# Altium schematic symbol library MI_Personal.SchLib: 995 symbols (part 8 of 12)
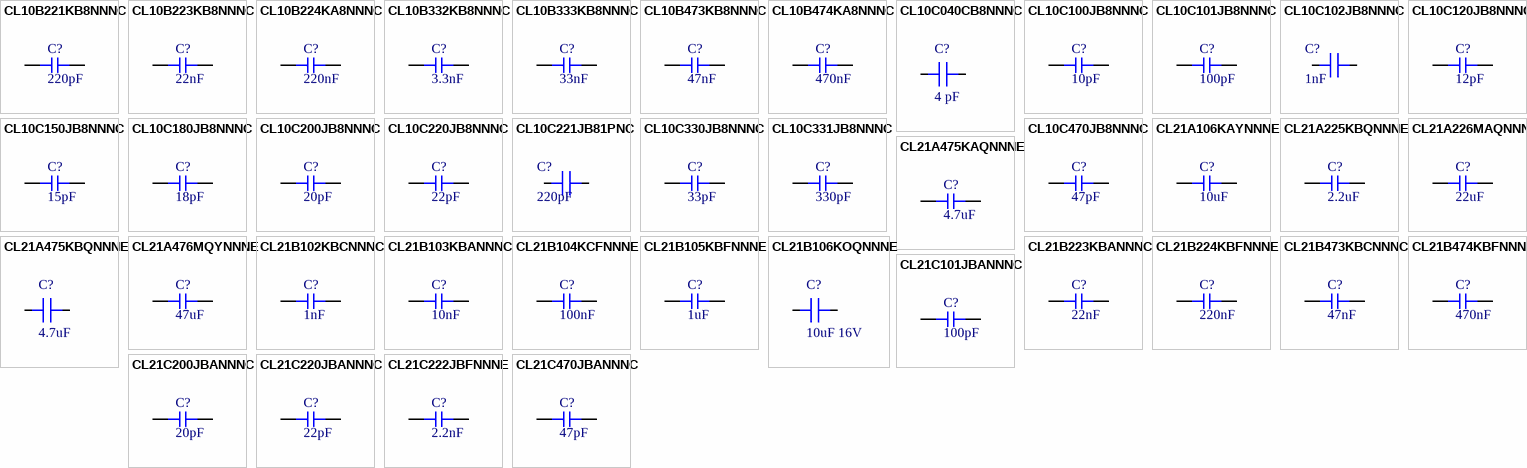
[diagram p34: symbols CL10B221KB8NNNC to CL21C470JBANNNC]

## CL21B105KBFNNNE
designator C?  Capacitance: 1uF  (hidden comment: *)
Capacitor, Ceramic (MLCC), 1uF, ±10%, 50V, X7R, ±10%, SMD 0805; Manufacturer: Samsung Electro-Mechanics; Manufacturer Part Number: CL21B105KBFNNNE; Temperature Rating: -55°C ~ 125°C; Capacitance @ 1V DC Bias: 1.022uF; Capacitance @ 1.2V DC Bias: 1.023uF; Capacitance @ 2.5V DC Bias: 1.020uF; Capacitance @ 3.3V DC Bias: 1.012uF; Capacitance @ 3.7V DC Bias: 1.007uF; Capacitance @ 4.2V DC Bias: 1.001uF; Capacitance @ 5V DC Bias: 0.989uF; Capacitance @ 9V DC Bias: 0.922uF; Capacitance @ 12V DC Bias: 0.865uF; Capacitance @ 15V DC Bias: 0.808uF; Capacitance @ 24V DC Bias: 0.633uF; Capacitance @ 36V DC Bias: 0.438uF; Capacitance @ 48V DC Bias: 0.303uF; Impedance (0V Bias) @ 100Hz: 1.59E+03Ω; Impedance (0V Bias) @ 500Hz: 322Ω; Impedance (0V Bias) @ 1kHz: 162Ω; Impedance (0V Bias) @ 5kHz: 32.7Ω; Impedance (0V Bias) @ 10kHz: 16.4Ω; Impedance (0V Bias) @ 50kHz: 3.32Ω; Impedance (0V Bias) @ 100kHz: 1.67Ω; Impedance (0V Bias) @ 500kHz: 0.337Ω; Impedance (0V Bias) @ 1MHz: 0.167Ω; Impedance (0V Bias) @ 5MHz: 0.0173Ω; Impedance (0V Bias) @ 10MHz: 0.0272Ω; Impedance (0V Bias) @ 50MHz: 0.083Ω; Impedance (0V Bias) @ 100MHz: 0.15Ω; Impedance (0V Bias) @ 500MHz: 0.646Ω; Impedance (0V Bias) @ 1GHz: 1.23Ω; Impedance (0V Bias) @ 2GHz: 3.21Ω; Impedance (0V Bias) @ 5GHz: 4.31Ω; Package Size: 0805; JLCPCB Basic Part: Yes; JLCPCB Part Number: C28323; Supplier 1: LCSC; Category: Capacitors - MLCC; Supplier Part Number 1: C28323; Tolerance: ±10%; Voltage Rating: 50V; Temperature Coefficient: X7R; RoHS: Yes; ComponentLink1Description: Datasheet; ComponentLink1URL: https://wmsc.lcsc.com/wmsc/upload/file/pdf/v2/lcsc/2304140030_Samsung-Electro-Mechanics-CL21B105KBFNNNE_C28323.pdf; ComponentLink2Description: JLCPCB Part URL; ComponentLink2URL: https://jlcpcb.com/partdetail/C28323; ComponentLink3Description: LCSC Part URL; ComponentLink3URL: https://lcsc.com/product-detail/Multilayer-Ceramic-Capacitors-MLCC---SMD-SMT_Samsung-Electro-Mechanics-Samsung-Electro-Mechanics-CL21B105KBFNNNE_C28323.html; ComponentLink4Description: Samsung Component Library; ComponentLink4URL: https://weblib.samsungsem.com/mlcc/mlcc-ec.do?partNumber=CL21B105KBFNNN; Capacitance @ 1.35V DC Bias: 1.023uF; Capacitance @ 1.5V DC Bias: 1.023uF; Capacitance @ 1.8V DC Bias: 1.023uF
footprint CAP-0805 (0805 (2012M) Capacitor)
pins: 1, 2

## CL21B106KOQNNNE
designator C?, comment 10uF 16V
CAP CER 10 UF 16V  X7R 0805; Supplier 1: DigiKey; Supplier Part Number 1: 1276-2872-1-ND; Supplier 2: LCSC; Supplier Part Number 2: C95841
footprint CAP 0805_2012 (Chip Capacitor, 2-Leads, Body 2.00x1.20mm, IPC Medium Density)
pins: 1, 2

## CL21B223KBANNNC
designator C?  Capacitance: 22nF  (hidden comment: *)
Capacitor, Ceramic (MLCC), 22nF, ±10%, 50V, X7R, ±10%, SMD 0805; Manufacturer: Samsung Electro-Mechanics; Manufacturer Part Number: CL21B223KBANNNC; Temperature Rating: -55°C ~ 125°C; Capacitance @ 1V DC Bias: 23.215nF; Capacitance @ 1.2V DC Bias: 23.284nF; Capacitance @ 1.35V DC Bias: 23.335nF; Capacitance @ 1.5V DC Bias: 23.383nF; Capacitance @ 1.8V DC Bias: 23.468nF; Capacitance @ 2.5V DC Bias: 23.573nF; Capacitance @ 3.3V DC Bias: 23.621nF; Capacitance @ 3.7V DC Bias: 23.639nF; Capacitance @ 4.2V DC Bias: 23.665nF; Capacitance @ 5V DC Bias: 23.709nF; Capacitance @ 9V DC Bias: 23.673nF; Capacitance @ 12V DC Bias: 23.509nF; Capacitance @ 15V DC Bias: 23.295nF; Capacitance @ 24V DC Bias: 22.251nF; Capacitance @ 36V DC Bias: 20.428nF; Capacitance @ 48V DC Bias: 18.116nF; Impedance (0V Bias) @ 100Hz: 7.26E+04Ω; Impedance (0V Bias) @ 500Hz: 1.48E+04Ω; Impedance (0V Bias) @ 1kHz: 7.42E+03Ω; Impedance (0V Bias) @ 5kHz: 1.51E+03Ω; Impedance (0V Bias) @ 10kHz: 759Ω; Impedance (0V Bias) @ 50kHz: 154Ω; Impedance (0V Bias) @ 100kHz: 77.4Ω; Impedance (0V Bias) @ 500kHz: 15.7Ω; Impedance (0V Bias) @ 1MHz: 7.89Ω; Impedance (0V Bias) @ 5MHz: 1.6Ω; Impedance (0V Bias) @ 10MHz: 0.791Ω; Impedance (0V Bias) @ 50MHz: 0.0677Ω; Impedance (0V Bias) @ 100MHz: 0.173Ω; Impedance (0V Bias) @ 500MHz: 1Ω; Impedance (0V Bias) @ 1GHz: 1.85Ω; Impedance (0V Bias) @ 2GHz: 4.69Ω; Impedance (0V Bias) @ 5GHz: 7.59Ω; Package Size: 0805; JLCPCB Basic Part: Yes; JLCPCB Part Number: C1729; Supplier 1: LCSC; Category: Capacitors - MLCC; Supplier Part Number 1: C1729; Tolerance: ±10%; Voltage Rating: 50V; Temperature Coefficient: X7R; RoHS: Yes; ComponentLink1Description: Datasheet; ComponentLink1URL: https://wmsc.lcsc.com/wmsc/upload/file/pdf/v2/lcsc/2304140030_Samsung-Electro-Mechanics-CL21B223KBANNNC_C1729.pdf; ComponentLink2Description: JLCPCB Part URL; ComponentLink2URL: https://jlcpcb.com/partdetail/C1729; ComponentLink3Description: LCSC Part URL; ComponentLink3URL: https://lcsc.com/product-detail/Multilayer-Ceramic-Capacitors-MLCC---SMD-SMT_Samsung-Electro-Mechanics-Samsung-Electro-Mechanics-CL21B223KBANNNC_C1729.html; ComponentLink4Description: Samsung Component Library; ComponentLink4URL: https://weblib.samsungsem.com/mlcc/mlcc-ec.do?partNumber=CL21B223KBANNN
footprint CAP-0805 (0805 (2012M) Capacitor)
pins: 1, 2

## CL21B224KBFNNNE
designator C?  Capacitance: 220nF  (hidden comment: *)
Capacitor, Ceramic (MLCC), 220nF, ±10%, 50V, X7R, ±10%, SMD 0805; Manufacturer: Samsung Electro-Mechanics; Manufacturer Part Number: CL21B224KBFNNNE; Temperature Rating: -55°C ~ 125°C; Capacitance @ 1V DC Bias: 225.693nF; Capacitance @ 1.2V DC Bias: 226.196nF; Capacitance @ 1.35V DC Bias: 226.716nF; Capacitance @ 1.5V DC Bias: 227.283nF; Capacitance @ 1.8V DC Bias: 228.348nF; Capacitance @ 2.5V DC Bias: 229.076nF; Capacitance @ 3.3V DC Bias: 228.527nF; Capacitance @ 3.7V DC Bias: 228.002nF; Capacitance @ 4.2V DC Bias: 227.332nF; Capacitance @ 5V DC Bias: 226.161nF; Capacitance @ 9V DC Bias: 215.876nF; Capacitance @ 12V DC Bias: 204.525nF; Capacitance @ 15V DC Bias: 192.396nF; Capacitance @ 24V DC Bias: 153.699nF; Capacitance @ 36V DC Bias: 110.941nF; Capacitance @ 48V DC Bias: 81.108nF; Impedance (0V Bias) @ 100Hz: 7.22E+03Ω; Impedance (0V Bias) @ 500Hz: 1.47E+03Ω; Impedance (0V Bias) @ 1kHz: 738Ω; Impedance (0V Bias) @ 5kHz: 150Ω; Impedance (0V Bias) @ 10kHz: 75.3Ω; Impedance (0V Bias) @ 50kHz: 15.2Ω; Impedance (0V Bias) @ 100kHz: 7.66Ω; Impedance (0V Bias) @ 500kHz: 1.55Ω; Impedance (0V Bias) @ 1MHz: 0.776Ω; Impedance (0V Bias) @ 5MHz: 0.141Ω; Impedance (0V Bias) @ 10MHz: 0.0469Ω; Impedance (0V Bias) @ 50MHz: 0.125Ω; Impedance (0V Bias) @ 100MHz: 0.226Ω; Impedance (0V Bias) @ 500MHz: 1.03Ω; Impedance (0V Bias) @ 1GHz: 2.08Ω; Impedance (0V Bias) @ 2GHz: 5.76Ω; Impedance (0V Bias) @ 5GHz: 8.59Ω; Package Size: 0805; JLCPCB Basic Part: Yes; JLCPCB Part Number: C5378; Supplier 1: LCSC; Category: Capacitors - MLCC; Supplier Part Number 1: C5378; Tolerance: ±10%; Voltage Rating: 50V; Temperature Coefficient: X7R; RoHS: Yes; ComponentLink1Description: Datasheet; ComponentLink1URL: https://wmsc.lcsc.com/wmsc/upload/file/pdf/v2/lcsc/2304140030_Samsung-Electro-Mechanics-CL21B224KBFNNNE_C5378.pdf; ComponentLink2Description: JLCPCB Part URL; ComponentLink2URL: https://jlcpcb.com/partdetail/C5378; ComponentLink3Description: LCSC Part URL; ComponentLink3URL: https://lcsc.com/product-detail/Multilayer-Ceramic-Capacitors-MLCC---SMD-SMT_Samsung-Electro-Mechanics-Samsung-Electro-Mechanics-CL21B224KBFNNNE_C5378.html; ComponentLink4Description: Samsung Component Library; ComponentLink4URL: https://weblib.samsungsem.com/mlcc/mlcc-ec.do?partNumber=CL21B224KBFNNN
footprint CAP-0805 (0805 (2012M) Capacitor)
pins: 1, 2

## CL21B473KBCNNNC
designator C?  Capacitance: 47nF  (hidden comment: *)
Capacitor, Ceramic (MLCC), 47nF, ±10%, 50V, X7R, ±10%, SMD 0805; Manufacturer: Samsung Electro-Mechanics; Manufacturer Part Number: CL21B473KBCNNNC; Temperature Rating: -55°C ~ 125°C; Capacitance @ 1V DC Bias: 47.743nF; Capacitance @ 1.2V DC Bias: 47.804nF; Capacitance @ 1.35V DC Bias: 47.849nF; Capacitance @ 1.5V DC Bias: 47.892nF; Capacitance @ 1.8V DC Bias: 47.964nF; Capacitance @ 2.5V DC Bias: 47.989nF; Capacitance @ 3.3V DC Bias: 48.073nF; Capacitance @ 3.7V DC Bias: 48.228nF; Capacitance @ 4.2V DC Bias: 48.310nF; Capacitance @ 5V DC Bias: 48.211nF; Capacitance @ 9V DC Bias: 47.580nF; Capacitance @ 12V DC Bias: 46.673nF; Capacitance @ 15V DC Bias: 45.635nF; Capacitance @ 24V DC Bias: 41.687nF; Capacitance @ 36V DC Bias: 34.181nF; Capacitance @ 48V DC Bias: 25.313nF; Impedance (0V Bias) @ 100Hz: 3.56E+04Ω; Impedance (0V Bias) @ 500Hz: 7.22E+03Ω; Impedance (0V Bias) @ 1kHz: 3.63E+03Ω; Impedance (0V Bias) @ 5kHz: 736Ω; Impedance (0V Bias) @ 10kHz: 370Ω; Impedance (0V Bias) @ 50kHz: 75.1Ω; Impedance (0V Bias) @ 100kHz: 37.7Ω; Impedance (0V Bias) @ 500kHz: 7.64Ω; Impedance (0V Bias) @ 1MHz: 3.84Ω; Impedance (0V Bias) @ 5MHz: 0.766Ω; Impedance (0V Bias) @ 10MHz: 0.363Ω; Impedance (0V Bias) @ 50MHz: 0.0744Ω; Impedance (0V Bias) @ 100MHz: 0.241Ω; Impedance (0V Bias) @ 500MHz: 1.14Ω; Impedance (0V Bias) @ 1GHz: 2.29Ω; Impedance (0V Bias) @ 2GHz: 6.81Ω; Impedance (0V Bias) @ 5GHz: 8.83Ω; Package Size: 0805; JLCPCB Basic Part: Yes; JLCPCB Part Number: C53134; Supplier 1: LCSC; Category: Capacitors - MLCC; Supplier Part Number 1: C53134; Tolerance: ±10%; Voltage Rating: 50V; Temperature Coefficient: X7R; RoHS: Yes; ComponentLink1Description: Datasheet; ComponentLink1URL: https://wmsc.lcsc.com/wmsc/upload/file/pdf/v2/lcsc/2304140030_Samsung-Electro-Mechanics-CL21B473KBCNNNC_C53134.pdf; ComponentLink2Description: JLCPCB Part URL; ComponentLink2URL: https://jlcpcb.com/partdetail/C53134; ComponentLink3Description: LCSC Part URL; ComponentLink3URL: https://lcsc.com/product-detail/Multilayer-Ceramic-Capacitors-MLCC---SMD-SMT_Samsung-Electro-Mechanics-Samsung-Electro-Mechanics-CL21B473KBCNNNC_C53134.html; ComponentLink4Description: Samsung Component Library; ComponentLink4URL: https://weblib.samsungsem.com/mlcc/mlcc-ec.do?partNumber=CL21B473KBCNNN
footprint CAP-0805 (0805 (2012M) Capacitor)
pins: 1, 2

## CL21B474KBFNNNE
designator C?  Capacitance: 470nF  (hidden comment: *)
Capacitor, Ceramic (MLCC), 470nF, ±10%, 50V, X7R, ±10%, SMD 0805; Manufacturer: Samsung Electro-Mechanics; Manufacturer Part Number: CL21B474KBFNNNE; Temperature Rating: -55°C ~ 125°C; Capacitance @ 1V DC Bias: 484.366nF; Capacitance @ 1.2V DC Bias: 485.709nF; Capacitance @ 1.35V DC Bias: 486.733nF; Capacitance @ 1.5V DC Bias: 487.728nF; Capacitance @ 1.8V DC Bias: 489.453nF; Capacitance @ 2.5V DC Bias: 491.116nF; Capacitance @ 3.3V DC Bias: 490.196nF; Capacitance @ 3.7V DC Bias: 488.843nF; Capacitance @ 4.2V DC Bias: 486.322nF; Capacitance @ 5V DC Bias: 480.667nF; Capacitance @ 9V DC Bias: 444.308nF; Capacitance @ 12V DC Bias: 402.629nF; Capacitance @ 15V DC Bias: 360.468nF; Capacitance @ 24V DC Bias: 251.778nF; Capacitance @ 36V DC Bias: 161.853nF; Capacitance @ 48V DC Bias: 116.152nF; Impedance (0V Bias) @ 100Hz: 3.21E+03Ω; Impedance (0V Bias) @ 500Hz: 654Ω; Impedance (0V Bias) @ 1kHz: 329Ω; Impedance (0V Bias) @ 5kHz: 67Ω; Impedance (0V Bias) @ 10kHz: 33.7Ω; Impedance (0V Bias) @ 50kHz: 6.83Ω; Impedance (0V Bias) @ 100kHz: 3.44Ω; Impedance (0V Bias) @ 500kHz: 0.697Ω; Impedance (0V Bias) @ 1MHz: 0.348Ω; Impedance (0V Bias) @ 5MHz: 0.0566Ω; Impedance (0V Bias) @ 10MHz: 0.0125Ω; Impedance (0V Bias) @ 50MHz: 0.0936Ω; Impedance (0V Bias) @ 100MHz: 0.169Ω; Impedance (0V Bias) @ 500MHz: 0.737Ω; Impedance (0V Bias) @ 1GHz: 1.43Ω; Impedance (0V Bias) @ 2GHz: 3.83Ω; Impedance (0V Bias) @ 5GHz: 4.98Ω; Package Size: 0805; JLCPCB Basic Part: Yes; JLCPCB Part Number: C13967; Supplier 1: LCSC; Category: Capacitors - MLCC; Supplier Part Number 1: C13967; Tolerance: ±10%; Voltage Rating: 50V; Temperature Coefficient: X7R; RoHS: Yes; ComponentLink1Description: Datasheet; ComponentLink1URL: https://wmsc.lcsc.com/wmsc/upload/file/pdf/v2/lcsc/2304140030_Samsung-Electro-Mechanics-CL21B474KBFNNNE_C13967.pdf; ComponentLink2Description: JLCPCB Part URL; ComponentLink2URL: https://jlcpcb.com/partdetail/C13967; ComponentLink3Description: LCSC Part URL; ComponentLink3URL: https://lcsc.com/product-detail/Multilayer-Ceramic-Capacitors-MLCC---SMD-SMT_Samsung-Electro-Mechanics-Samsung-Electro-Mechanics-CL21B474KBFNNNE_C13967.html; ComponentLink4Description: Samsung Component Library; ComponentLink4URL: https://weblib.samsungsem.com/mlcc/mlcc-ec.do?partNumber=CL21B474KBFNNN
footprint CAP-0805 (0805 (2012M) Capacitor)
pins: 1, 2

## CL21C101JBANNNC
designator C?  Capacitance: 100pF  (hidden comment: *)
Capacitor, Ceramic (MLCC), 100pF, ±5%, 50V, C0G, ±5%, SMD 0805; Manufacturer: Samsung Electro-Mechanics; Manufacturer Part Number: CL21C101JBANNNC; Temperature Rating: -55°C ~ 125°C; Impedance (0V Bias) @ 100MHz: 15.6Ω; Impedance (0V Bias) @ 500MHz: 1.81Ω; Impedance (0V Bias) @ 1GHz: 1.14Ω; Impedance (0V Bias) @ 2GHz: 6.04Ω; Impedance (0V Bias) @ 5GHz: 11.1Ω; Package Size: 0805; JLCPCB Basic Part: Yes; JLCPCB Part Number: C1790; Supplier 1: LCSC; Category: Capacitors - MLCC; Supplier Part Number 1: C1790; Tolerance: ±5%; Voltage Rating: 50V; Temperature Coefficient: C0G; RoHS: Yes; ComponentLink1Description: Datasheet; ComponentLink1URL: https://wmsc.lcsc.com/wmsc/upload/file/pdf/v2/lcsc/2304140030_Samsung-Electro-Mechanics-CL21C101JBANNNC_C1790.pdf; ComponentLink2Description: JLCPCB Part URL; ComponentLink2URL: https://jlcpcb.com/partdetail/C1790; ComponentLink3Description: LCSC Part URL; ComponentLink3URL: https://lcsc.com/product-detail/Multilayer-Ceramic-Capacitors-MLCC---SMD-SMT_Samsung-Electro-Mechanics-Samsung-Electro-Mechanics-CL21C101JBANNNC_C1790.html; ComponentLink4Description: Samsung Component Library; ComponentLink4URL: https://weblib.samsungsem.com/mlcc/mlcc-ec.do?partNumber=CL21C101JBANNN
footprint CAP-0805 (0805 (2012M) Capacitor)
pins: 1, 2

## CL21C200JBANNNC
designator C?  Capacitance: 20pF  (hidden comment: *)
Capacitor, Ceramic (MLCC), 20pF, ±5%, 50V, C0G, ±5%, SMD 0805; Manufacturer: Samsung Electro-Mechanics; Manufacturer Part Number: CL21C200JBANNNC; Temperature Rating: -55°C ~ 125°C; Impedance (0V Bias) @ 100MHz: 79.3Ω; Impedance (0V Bias) @ 500MHz: 14.7Ω; Impedance (0V Bias) @ 1GHz: 5.55Ω; Impedance (0V Bias) @ 2GHz: 2.72Ω; Impedance (0V Bias) @ 5GHz: 10.1Ω; Package Size: 0805; JLCPCB Basic Part: Yes; JLCPCB Part Number: C1798; Supplier 1: LCSC; Category: Capacitors - MLCC; Supplier Part Number 1: C1798; Tolerance: ±5%; Voltage Rating: 50V; Temperature Coefficient: C0G; RoHS: Yes; ComponentLink1Description: Datasheet; ComponentLink1URL: https://wmsc.lcsc.com/wmsc/upload/file/pdf/v2/lcsc/2304140030_Samsung-Electro-Mechanics-CL21C200JBANNNC_C1798.pdf; ComponentLink2Description: JLCPCB Part URL; ComponentLink2URL: https://jlcpcb.com/partdetail/C1798; ComponentLink3Description: LCSC Part URL; ComponentLink3URL: https://lcsc.com/product-detail/Multilayer-Ceramic-Capacitors-MLCC---SMD-SMT_Samsung-Electro-Mechanics-Samsung-Electro-Mechanics-CL21C200JBANNNC_C1798.html; ComponentLink4Description: Samsung Component Library; ComponentLink4URL: https://weblib.samsungsem.com/mlcc/mlcc-ec.do?partNumber=CL21C200JBANNN
footprint CAP-0805 (0805 (2012M) Capacitor)
pins: 1, 2

## CL21C220JBANNNC
designator C?  Capacitance: 22pF  (hidden comment: *)
Capacitor, Ceramic (MLCC), 22pF, ±5%, 50V, C0G, ±5%, SMD 0805; Manufacturer: Samsung Electro-Mechanics; Manufacturer Part Number: CL21C220JBANNNC; Temperature Rating: -55°C ~ 125°C; Impedance (0V Bias) @ 100MHz: 72.1Ω; Impedance (0V Bias) @ 500MHz: 13.2Ω; Impedance (0V Bias) @ 1GHz: 4.73Ω; Impedance (0V Bias) @ 2GHz: 3.26Ω; Impedance (0V Bias) @ 5GHz: 11.2Ω; Package Size: 0805; JLCPCB Basic Part: Yes; JLCPCB Part Number: C1804; Supplier 1: LCSC; Category: Capacitors - MLCC; Supplier Part Number 1: C1804; Tolerance: ±5%; Voltage Rating: 50V; Temperature Coefficient: C0G; RoHS: Yes; ComponentLink1Description: Datasheet; ComponentLink1URL: https://wmsc.lcsc.com/wmsc/upload/file/pdf/v2/lcsc/2304140030_Samsung-Electro-Mechanics-CL21C220JBANNNC_C1804.pdf; ComponentLink2Description: JLCPCB Part URL; ComponentLink2URL: https://jlcpcb.com/partdetail/C1804; ComponentLink3Description: LCSC Part URL; ComponentLink3URL: https://lcsc.com/product-detail/Multilayer-Ceramic-Capacitors-MLCC---SMD-SMT_Samsung-Electro-Mechanics-Samsung-Electro-Mechanics-CL21C220JBANNNC_C1804.html; ComponentLink4Description: Samsung Component Library; ComponentLink4URL: https://weblib.samsungsem.com/mlcc/mlcc-ec.do?partNumber=CL21C220JBANNN
footprint CAP-0805 (0805 (2012M) Capacitor)
pins: 1, 2

## CL21C222JBFNNNE
designator C?  Capacitance: 2.2nF  (hidden comment: *)
Capacitor, Ceramic (MLCC), 2.2nF, ±5%, 50V, C0G, ±5%, SMD 0805; Manufacturer: Samsung Electro-Mechanics; Manufacturer Part Number: CL21C222JBFNNNE; Temperature Rating: -55°C ~ 125°C; Impedance (0V Bias) @ 1MHz: 72.3Ω; Impedance (0V Bias) @ 5MHz: 14.5Ω; Impedance (0V Bias) @ 10MHz: 7.2Ω; Impedance (0V Bias) @ 50MHz: 1.29Ω; Impedance (0V Bias) @ 100MHz: 0.415Ω; Impedance (0V Bias) @ 500MHz: 1.04Ω; Impedance (0V Bias) @ 1GHz: 1.98Ω; Impedance (0V Bias) @ 2GHz: 4.86Ω; Impedance (0V Bias) @ 5GHz: 9.61Ω; Package Size: 0805; JLCPCB Basic Part: Yes; JLCPCB Part Number: C28260; Supplier 1: LCSC; Category: Capacitors - MLCC; Supplier Part Number 1: C28260; Tolerance: ±5%; Voltage Rating: 50V; Temperature Coefficient: C0G; RoHS: Yes; ComponentLink1Description: Datasheet; ComponentLink1URL: https://wmsc.lcsc.com/wmsc/upload/file/pdf/v2/lcsc/2304140030_Samsung-Electro-Mechanics-CL21C222JBFNNNE_C28260.pdf; ComponentLink2Description: JLCPCB Part URL; ComponentLink2URL: https://jlcpcb.com/partdetail/C28260; ComponentLink3Description: LCSC Part URL; ComponentLink3URL: https://lcsc.com/product-detail/Multilayer-Ceramic-Capacitors-MLCC---SMD-SMT_Samsung-Electro-Mechanics-Samsung-Electro-Mechanics-CL21C222JBFNNNE_C28260.html; ComponentLink4Description: Samsung Component Library; ComponentLink4URL: https://weblib.samsungsem.com/mlcc/mlcc-ec.do?partNumber=CL21C222JBFNNN
footprint CAP-0805 (0805 (2012M) Capacitor)
pins: 1, 2

## CL21C470JBANNNC
designator C?  Capacitance: 47pF  (hidden comment: *)
Capacitor, Ceramic (MLCC), 47pF, ±5%, 50V, C0G, ±5%, SMD 0805; Manufacturer: Samsung Electro-Mechanics; Manufacturer Part Number: CL21C470JBANNNC; Temperature Rating: -55°C ~ 125°C; Impedance (0V Bias) @ 100MHz: 33.6Ω; Impedance (0V Bias) @ 500MHz: 5.4Ω; Impedance (0V Bias) @ 1GHz: 0.703Ω; Impedance (0V Bias) @ 2GHz: 5.25Ω; Impedance (0V Bias) @ 5GHz: 12.3Ω; Package Size: 0805; JLCPCB Basic Part: Yes; JLCPCB Part Number: C14857; Supplier 1: LCSC; Category: Capacitors - MLCC; Supplier Part Number 1: C14857; Tolerance: ±5%; Voltage Rating: 50V; Temperature Coefficient: C0G; RoHS: Yes; ComponentLink1Description: Datasheet; ComponentLink1URL: https://wmsc.lcsc.com/wmsc/upload/file/pdf/v2/lcsc/2304140030_Samsung-Electro-Mechanics-CL21C470JBANNNC_C14857.pdf; ComponentLink2Description: JLCPCB Part URL; ComponentLink2URL: https://jlcpcb.com/partdetail/C14857; ComponentLink3Description: LCSC Part URL; ComponentLink3URL: https://lcsc.com/product-detail/Multilayer-Ceramic-Capacitors-MLCC---SMD-SMT_Samsung-Electro-Mechanics-Samsung-Electro-Mechanics-CL21C470JBANNNC_C14857.html; ComponentLink4Description: Samsung Component Library; ComponentLink4URL: https://weblib.samsungsem.com/mlcc/mlcc-ec.do?partNumber=CL21C470JBANNN
footprint CAP-0805 (0805 (2012M) Capacitor)
pins: 1, 2

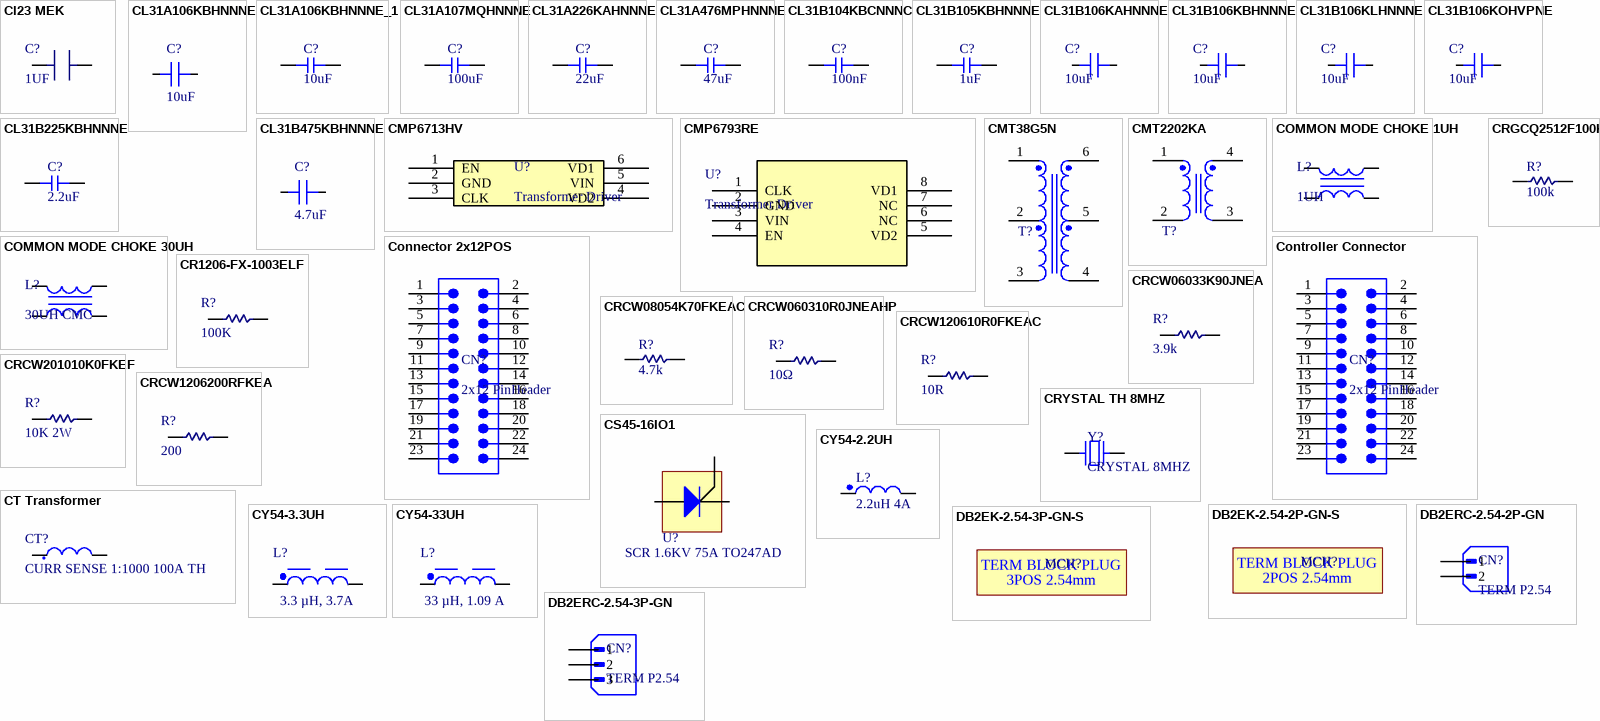
[diagram p11: symbols Cl23 MEK to DB2ERC-2.54-3P-GN]

## Cl23 MEK
designator C?, comment 1UF
CAP FILM 1UF 65VDC TH; ComponentLink1Description: MADE IN CHINA; ComponentLink1URL: https://hongfarad168.en.made-in-china.com/product/CsMQuEWDhJhe/China-Durable-Cl23-MEK-Minibox-Metallized-Polyester-Film-Capacitor-Box-type-.html?pv_id=1ig1leab5004&faw_id=1ig1lejmm149; Supplier 1: Made In China; Supplier Part Number 1: https://hongfarad168.en.made-in-china.com/product/CsMQuEWDhJhe/China-Durable-Cl23-MEK-Minibox-Metallized-Polyester-Film-Capacitor-Box-type-.html?pv_id=1ig1leab5004&faw_id=1ig1lejmm149
footprint Cl23 MEK
pins: 1 A, 2 B

## CL31A106KBHNNNE
designator C?, comment 10uF
CAP CER 10UF 50V X5R 1206; Supplier 1: Digikey; Supplier Part Number 1: 1276-2876-1-ND; Supplier 2: LCSC; Supplier Part Number 2: C13585; Supplier 3: Digikey; Supplier Part Number 3: 587-3248-1-ND; Supplier 4: LCSC; Supplier Part Number 4: C513774
footprint CAP 1206_3216 - 1.8MM (Chip Capacitor, 2-Leads, Body 3.25x1.60mm, IPC Medium Density)
pins: 1, 2

## CL31A106KBHNNNE_1
designator C?  Capacitance: 10uF  (hidden comment: *)
Capacitor, Ceramic (MLCC), 10uF, ±10%, 50V, X5R, ±10%, SMD 1206; Manufacturer: Samsung Electro-Mechanics; Manufacturer Part Number: CL31A106KBHNNNE; Temperature Rating: -55°C ~ 85°C; Capacitance @ 1V DC Bias: 10.893uF; Capacitance @ 1.2V DC Bias: 10.845uF; Capacitance @ 1.35V DC Bias: 10.805uF; Capacitance @ 1.5V DC Bias: 10.758uF; Capacitance @ 1.8V DC Bias: 10.643uF; Capacitance @ 2.5V DC Bias: 10.207uF; Capacitance @ 3.3V DC Bias: 9.569uF; Capacitance @ 3.7V DC Bias: 9.212uF; Capacitance @ 4.2V DC Bias: 8.754uF; Capacitance @ 5V DC Bias: 8.026uF; Capacitance @ 9V DC Bias: 5.016uF; Capacitance @ 12V DC Bias: 3.815uF; Capacitance @ 15V DC Bias: 2.884uF; Capacitance @ 24V DC Bias: 1.592uF; Capacitance @ 36V DC Bias: 0.865uF; Capacitance @ 48V DC Bias: 0.593uF; Impedance (0V Bias) @ 100Hz: 214Ω; Impedance (0V Bias) @ 500Hz: 43.9Ω; Impedance (0V Bias) @ 1kHz: 22.2Ω; Impedance (0V Bias) @ 5kHz: 4.53Ω; Impedance (0V Bias) @ 10kHz: 2.28Ω; Impedance (0V Bias) @ 50kHz: 0.466Ω; Impedance (0V Bias) @ 100kHz: 0.235Ω; Impedance (0V Bias) @ 500kHz: 0.0451Ω; Impedance (0V Bias) @ 1MHz: 0.0185Ω; Impedance (0V Bias) @ 5MHz: 0.0232Ω; Impedance (0V Bias) @ 10MHz: 0.0366Ω; Impedance (0V Bias) @ 50MHz: 0.137Ω; Impedance (0V Bias) @ 100MHz: 0.247Ω; Impedance (0V Bias) @ 500MHz: 1.04Ω; Impedance (0V Bias) @ 1GHz: 2.01Ω; Impedance (0V Bias) @ 2GHz: 5.31Ω; Impedance (0V Bias) @ 5GHz: 6Ω; Package Size: 1206; JLCPCB Basic Part: Yes; JLCPCB Part Number: C13585; Supplier 1: LCSC; Category: Capacitors - MLCC; Supplier Part Number 1: C13585; Tolerance: ±10%; Voltage Rating: 50V; Temperature Coefficient: X5R; RoHS: Yes; ComponentLink1Description: Datasheet; ComponentLink1URL: https://wmsc.lcsc.com/wmsc/upload/file/pdf/v2/lcsc/2304140030_Samsung-Electro-Mechanics-CL31A106KBHNNNE_C13585.pdf; ComponentLink2Description: JLCPCB Part URL; ComponentLink2URL: https://jlcpcb.com/partdetail/C13585; ComponentLink3Description: LCSC Part URL; ComponentLink3URL: https://lcsc.com/product-detail/Multilayer-Ceramic-Capacitors-MLCC---SMD-SMT_Samsung-Electro-Mechanics-Samsung-Electro-Mechanics-CL31A106KBHNNNE_C13585.html; ComponentLink4Description: Samsung Component Library; ComponentLink4URL: https://weblib.samsungsem.com/mlcc/mlcc-ec.do?partNumber=CL31A106KBHNNN
footprint CAP-1206 (1206 (3216M) Capacitor)
pins: 1, 2

## CL31A107MQHNNNE
designator C?  Capacitance: 100uF  (hidden comment: *)
Capacitor, Ceramic (MLCC), 100uF, ±20%, 6.3V, X5R, ±20%, SMD 1206; Manufacturer: Samsung Electro-Mechanics; Manufacturer Part Number: CL31A107MQHNNNE; Temperature Rating: -55°C ~ 85°C; Capacitance @ 1V DC Bias: 82.272uF; Capacitance @ 1.2V DC Bias: 78.081uF; Capacitance @ 1.35V DC Bias: 74.731uF; Capacitance @ 1.5V DC Bias: 71.354uF; Capacitance @ 1.8V DC Bias: 64.840uF; Capacitance @ 2.5V DC Bias: 52.336uF; Capacitance @ 3.3V DC Bias: 40.695uF; Capacitance @ 3.7V DC Bias: 36.419uF; Capacitance @ 4.2V DC Bias: 32.096uF; Capacitance @ 5V DC Bias: 26.538uF; Impedance (0V Bias) @ 100Hz: 22Ω; Impedance (0V Bias) @ 500Hz: 4.52Ω; Impedance (0V Bias) @ 1kHz: 2.28Ω; Impedance (0V Bias) @ 5kHz: 0.467Ω; Impedance (0V Bias) @ 10kHz: 0.236Ω; Impedance (0V Bias) @ 50kHz: 0.0479Ω; Impedance (0V Bias) @ 100kHz: 0.0235Ω; Impedance (0V Bias) @ 500kHz: 0.00247Ω; Impedance (0V Bias) @ 1MHz: 0.00694Ω; Impedance (0V Bias) @ 5MHz: 0.0201Ω; Impedance (0V Bias) @ 10MHz: 0.0348Ω; Impedance (0V Bias) @ 50MHz: 0.13Ω; Impedance (0V Bias) @ 100MHz: 0.24Ω; Impedance (0V Bias) @ 500MHz: 0.948Ω; Impedance (0V Bias) @ 1GHz: 1.82Ω; Impedance (0V Bias) @ 2GHz: 4.87Ω; Impedance (0V Bias) @ 5GHz: 7.13Ω; Package Size: 1206; JLCPCB Basic Part: Yes; JLCPCB Part Number: C15008; Supplier 1: LCSC; Category: Capacitors - MLCC; Supplier Part Number 1: C15008; Tolerance: ±20%; Voltage Rating: 6.3V; Temperature Coefficient: X5R; RoHS: Yes; ComponentLink1Description: Datasheet; ComponentLink1URL: https://wmsc.lcsc.com/wmsc/upload/file/pdf/v2/lcsc/2304140030_Samsung-Electro-Mechanics-CL31A107MQHNNNE_C15008.pdf; ComponentLink2Description: JLCPCB Part URL; ComponentLink2URL: https://jlcpcb.com/partdetail/C15008; ComponentLink3Description: LCSC Part URL; ComponentLink3URL: https://lcsc.com/product-detail/Multilayer-Ceramic-Capacitors-MLCC---SMD-SMT_Samsung-Electro-Mechanics-Samsung-Electro-Mechanics-CL31A107MQHNNNE_C15008.html; ComponentLink4Description: Samsung Component Library; ComponentLink4URL: https://weblib.samsungsem.com/mlcc/mlcc-ec.do?partNumber=CL31A107MQHNNN
footprint CAP-1206 (1206 (3216M) Capacitor)
pins: 1, 2

## CL31A226KAHNNNE
designator C?  Capacitance: 22uF  (hidden comment: *)
Capacitor, Ceramic (MLCC), 22uF, ±10%, 25V, X5R, ±10%, SMD 1206; Manufacturer: Samsung Electro-Mechanics; Manufacturer Part Number: CL31A226KAHNNNE; Temperature Rating: -55°C ~ 85°C; Capacitance @ 1V DC Bias: 22.377uF; Capacitance @ 1.2V DC Bias: 22.116uF; Capacitance @ 1.35V DC Bias: 21.898uF; Capacitance @ 1.5V DC Bias: 21.664uF; Capacitance @ 1.8V DC Bias: 21.155uF; Capacitance @ 2.5V DC Bias: 19.666uF; Capacitance @ 3.3V DC Bias: 17.727uF; Capacitance @ 3.7V DC Bias: 16.753uF; Capacitance @ 4.2V DC Bias: 15.581uF; Capacitance @ 5V DC Bias: 13.837uF; Capacitance @ 9V DC Bias: 7.815uF; Capacitance @ 12V DC Bias: 5.808uF; Capacitance @ 15V DC Bias: 4.310uF; Capacitance @ 24V DC Bias: 2.368uF; Impedance (0V Bias) @ 100Hz: 89.9Ω; Impedance (0V Bias) @ 500Hz: 18.4Ω; Impedance (0V Bias) @ 1kHz: 9.32Ω; Impedance (0V Bias) @ 5kHz: 1.91Ω; Impedance (0V Bias) @ 10kHz: 0.964Ω; Impedance (0V Bias) @ 50kHz: 0.197Ω; Impedance (0V Bias) @ 100kHz: 0.0993Ω; Impedance (0V Bias) @ 500kHz: 0.0172Ω; Impedance (0V Bias) @ 1MHz: 0.00479Ω; Impedance (0V Bias) @ 5MHz: 0.0194Ω; Impedance (0V Bias) @ 10MHz: 0.0313Ω; Impedance (0V Bias) @ 50MHz: 0.118Ω; Impedance (0V Bias) @ 100MHz: 0.214Ω; Impedance (0V Bias) @ 500MHz: 0.912Ω; Impedance (0V Bias) @ 1GHz: 1.78Ω; Impedance (0V Bias) @ 2GHz: 4.52Ω; Impedance (0V Bias) @ 5GHz: 5.74Ω; Impedance (25V Bias) @ 100Hz: 722Ω; Impedance (25V Bias) @ 500Hz: 146Ω; Impedance (25V Bias) @ 1kHz: 73.1Ω; Impedance (25V Bias) @ 5kHz: 14.7Ω; Impedance (25V Bias) @ 10kHz: 7.39Ω; Impedance (25V Bias) @ 50kHz: 1.49Ω; Impedance (25V Bias) @ 100kHz: 0.746Ω; Impedance (25V Bias) @ 500kHz: 0.142Ω; Impedance (25V Bias) @ 1MHz: 0.0597Ω; Impedance (25V Bias) @ 5MHz: 0.0203Ω; Impedance (25V Bias) @ 10MHz: 0.0417Ω; Impedance (25V Bias) @ 50MHz: 0.115Ω; Impedance (25V Bias) @ 100MHz: 0.213Ω; Impedance (25V Bias) @ 500MHz: 0.925Ω; Impedance (25V Bias) @ 1GHz: 1.79Ω; Impedance (25V Bias) @ 2GHz: 4.53Ω; Impedance (25V Bias) @ 5GHz: 5.82Ω; Package Size: 1206; JLCPCB Basic Part: Yes; JLCPCB Part Number: C12891; Supplier 1: LCSC; Category: Capacitors - MLCC; Supplier Part Number 1: C12891; Tolerance: ±10%; Voltage Rating: 25V; Temperature Coefficient: X5R; RoHS: Yes; ComponentLink1Description: Datasheet; ComponentLink1URL: https://wmsc.lcsc.com/wmsc/upload/file/pdf/v2/lcsc/2304140030_Samsung-Electro-Mechanics-CL31A226KAHNNNE_C12891.pdf; ComponentLink2Description: JLCPCB Part URL; ComponentLink2URL: https://jlcpcb.com/partdetail/C12891; ComponentLink3Description: LCSC Part URL; ComponentLink3URL: https://lcsc.com/product-detail/Multilayer-Ceramic-Capacitors-MLCC---SMD-SMT_Samsung-Electro-Mechanics-Samsung-Electro-Mechanics-CL31A226KAHNNNE_C12891.html; ComponentLink4Description: Samsung Component Library; ComponentLink4URL: https://weblib.samsungsem.com/mlcc/mlcc-ec.do?partNumber=CL31A226KAHNNN
footprint CAP-1206 (1206 (3216M) Capacitor)
pins: 1, 2

## CL31A476MPHNNNE
designator C?  Capacitance: 47uF  (hidden comment: *)
Capacitor, Ceramic (MLCC), 47uF, ±20%, 10V, X5R, ±20%, SMD 1206; Manufacturer: Samsung Electro-Mechanics; Manufacturer Part Number: CL31A476MPHNNNE; Temperature Rating: -55°C ~ 85°C; Capacitance @ 1V DC Bias: 43.604uF; Capacitance @ 1.2V DC Bias: 42.443uF; Capacitance @ 1.35V DC Bias: 41.313uF; Capacitance @ 1.5V DC Bias: 40.058uF; Capacitance @ 1.8V DC Bias: 37.377uF; Capacitance @ 2.5V DC Bias: 31.597uF; Capacitance @ 3.3V DC Bias: 25.769uF; Capacitance @ 3.7V DC Bias: 23.402uF; Capacitance @ 4.2V DC Bias: 20.811uF; Capacitance @ 5V DC Bias: 17.526uF; Capacitance @ 9V DC Bias: 8.957uF; Impedance (0V Bias) @ 100Hz: 45Ω; Impedance (0V Bias) @ 500Hz: 9.22Ω; Impedance (0V Bias) @ 1kHz: 4.66Ω; Impedance (0V Bias) @ 5kHz: 0.955Ω; Impedance (0V Bias) @ 10kHz: 0.483Ω; Impedance (0V Bias) @ 50kHz: 0.0987Ω; Impedance (0V Bias) @ 100kHz: 0.0493Ω; Impedance (0V Bias) @ 500kHz: 0.00688Ω; Impedance (0V Bias) @ 1MHz: 0.00482Ω; Impedance (0V Bias) @ 5MHz: 0.02Ω; Impedance (0V Bias) @ 10MHz: 0.0347Ω; Impedance (0V Bias) @ 50MHz: 0.135Ω; Impedance (0V Bias) @ 100MHz: 0.247Ω; Impedance (0V Bias) @ 500MHz: 0.973Ω; Impedance (0V Bias) @ 1GHz: 1.8Ω; Impedance (0V Bias) @ 2GHz: 4.53Ω; Impedance (0V Bias) @ 5GHz: 5.8Ω; Impedance (10V Bias) @ 100Hz: 210Ω; Impedance (10V Bias) @ 500Hz: 42.6Ω; Impedance (10V Bias) @ 1kHz: 21.4Ω; Impedance (10V Bias) @ 5kHz: 4.33Ω; Impedance (10V Bias) @ 10kHz: 2.17Ω; Impedance (10V Bias) @ 50kHz: 0.439Ω; Impedance (10V Bias) @ 100kHz: 0.22Ω; Impedance (10V Bias) @ 500kHz: 0.0404Ω; Impedance (10V Bias) @ 1MHz: 0.014Ω; Impedance (10V Bias) @ 5MHz: 0.0234Ω; Impedance (10V Bias) @ 10MHz: 0.035Ω; Impedance (10V Bias) @ 50MHz: 0.133Ω; Impedance (10V Bias) @ 100MHz: 0.244Ω; Impedance (10V Bias) @ 500MHz: 1.01Ω; Impedance (10V Bias) @ 1GHz: 1.81Ω; Impedance (10V Bias) @ 2GHz: 4.47Ω; Impedance (10V Bias) @ 5GHz: 5.81Ω; Package Size: 1206; JLCPCB Basic Part: Yes; JLCPCB Part Number: C96123; Supplier 1: LCSC; Category: Capacitors - MLCC; Supplier Part Number 1: C96123; Tolerance: ±20%; Voltage Rating: 10V; Temperature Coefficient: X5R; RoHS: Yes; ComponentLink1Description: Datasheet; ComponentLink1URL: https://wmsc.lcsc.com/wmsc/upload/file/pdf/v2/lcsc/2304140030_Samsung-Electro-Mechanics-CL31A476MPHNNNE_C96123.pdf; ComponentLink2Description: JLCPCB Part URL; ComponentLink2URL: https://jlcpcb.com/partdetail/C96123; ComponentLink3Description: LCSC Part URL; ComponentLink3URL: https://lcsc.com/product-detail/Multilayer-Ceramic-Capacitors-MLCC---SMD-SMT_Samsung-Electro-Mechanics-Samsung-Electro-Mechanics-CL31A476MPHNNNE_C96123.html; ComponentLink4Description: Samsung Component Library; ComponentLink4URL: https://weblib.samsungsem.com/mlcc/mlcc-ec.do?partNumber=CL31A476MPHNNN
footprint CAP-1206 (1206 (3216M) Capacitor)
pins: 1, 2

## CL31B104KBCNNNC
designator C?  Capacitance: 100nF  (hidden comment: *)
Capacitor, Ceramic (MLCC), 100nF, ±10%, 50V, X7R, ±10%, SMD 1206; Manufacturer: Samsung Electro-Mechanics; Manufacturer Part Number: CL31B104KBCNNNC; Temperature Rating: -55°C ~ 125°C; Capacitance @ 1V DC Bias: 106.389nF; Capacitance @ 1.2V DC Bias: 106.577nF; Capacitance @ 1.35V DC Bias: 106.709nF; Capacitance @ 1.5V DC Bias: 106.831nF; Capacitance @ 1.8V DC Bias: 107.024nF; Capacitance @ 2.5V DC Bias: 107.088nF; Capacitance @ 3.3V DC Bias: 106.939nF; Capacitance @ 3.7V DC Bias: 106.905nF; Capacitance @ 4.2V DC Bias: 106.784nF; Capacitance @ 5V DC Bias: 106.403nF; Capacitance @ 9V DC Bias: 103.597nF; Capacitance @ 12V DC Bias: 100.607nF; Capacitance @ 15V DC Bias: 97.210nF; Capacitance @ 24V DC Bias: 84.826nF; Capacitance @ 36V DC Bias: 67.653nF; Capacitance @ 48V DC Bias: 52.833nF; Impedance (0V Bias) @ 100Hz: 1.43E+04Ω; Impedance (0V Bias) @ 500Hz: 2.9E+03Ω; Impedance (0V Bias) @ 1kHz: 1.46E+03Ω; Impedance (0V Bias) @ 5kHz: 298Ω; Impedance (0V Bias) @ 10kHz: 150Ω; Impedance (0V Bias) @ 50kHz: 30.3Ω; Impedance (0V Bias) @ 100kHz: 15.3Ω; Impedance (0V Bias) @ 500kHz: 3.09Ω; Impedance (0V Bias) @ 1MHz: 1.56Ω; Impedance (0V Bias) @ 5MHz: 0.301Ω; Impedance (0V Bias) @ 10MHz: 0.126Ω; Impedance (0V Bias) @ 50MHz: 0.162Ω; Impedance (0V Bias) @ 100MHz: 0.314Ω; Impedance (0V Bias) @ 500MHz: 1.38Ω; Impedance (0V Bias) @ 1GHz: 2.72Ω; Impedance (0V Bias) @ 2GHz: 7.19Ω; Impedance (0V Bias) @ 5GHz: 10.1Ω; Package Size: 1206; JLCPCB Basic Part: Yes; JLCPCB Part Number: C24497; Supplier 1: LCSC; Category: Capacitors - MLCC; Supplier Part Number 1: C24497; Tolerance: ±10%; Voltage Rating: 50V; Temperature Coefficient: X7R; RoHS: Yes; ComponentLink1Description: Datasheet; ComponentLink1URL: https://wmsc.lcsc.com/wmsc/upload/file/pdf/v2/lcsc/2304140030_Samsung-Electro-Mechanics-CL31B104KBCNNNC_C24497.pdf; ComponentLink2Description: JLCPCB Part URL; ComponentLink2URL: https://jlcpcb.com/partdetail/C24497; ComponentLink3Description: LCSC Part URL; ComponentLink3URL: https://lcsc.com/product-detail/Multilayer-Ceramic-Capacitors-MLCC---SMD-SMT_Samsung-Electro-Mechanics-Samsung-Electro-Mechanics-CL31B104KBCNNNC_C24497.html; ComponentLink4Description: Samsung Component Library; ComponentLink4URL: https://weblib.samsungsem.com/mlcc/mlcc-ec.do?partNumber=CL31B104KBCNNN
footprint CAP-1206 (1206 (3216M) Capacitor)
pins: 1, 2

## CL31B105KBHNNNE
designator C?  Capacitance: 1uF  (hidden comment: *)
Capacitor, Ceramic (MLCC), 1uF, ±10%, 50V, X7R, ±10%, SMD 1206; Manufacturer: Samsung Electro-Mechanics; Manufacturer Part Number: CL31B105KBHNNNE; Temperature Rating: -55°C ~ 125°C; Capacitance @ 1V DC Bias: 1.018uF; Capacitance @ 1.2V DC Bias: 1.020uF; Capacitance @ 1.35V DC Bias: 1.022uF; Capacitance @ 1.5V DC Bias: 1.024uF; Capacitance @ 1.8V DC Bias: 1.027uF; Capacitance @ 2.5V DC Bias: 1.031uF; Capacitance @ 3.3V DC Bias: 1.033uF; Capacitance @ 3.7V DC Bias: 1.032uF; Capacitance @ 5V DC Bias: 1.029uF; Capacitance @ 9V DC Bias: 1.003uF; Capacitance @ 12V DC Bias: 0.973uF; Capacitance @ 15V DC Bias: 0.939uF; Capacitance @ 24V DC Bias: 0.812uF; Capacitance @ 36V DC Bias: 0.616uF; Capacitance @ 48V DC Bias: 0.420uF; Impedance (0V Bias) @ 100Hz: 1.7E+03Ω; Impedance (0V Bias) @ 500Hz: 344Ω; Impedance (0V Bias) @ 1kHz: 173Ω; Impedance (0V Bias) @ 5kHz: 35Ω; Impedance (0V Bias) @ 10kHz: 17.6Ω; Impedance (0V Bias) @ 50kHz: 3.56Ω; Impedance (0V Bias) @ 100kHz: 1.79Ω; Impedance (0V Bias) @ 500kHz: 0.36Ω; Impedance (0V Bias) @ 1MHz: 0.177Ω; Impedance (0V Bias) @ 5MHz: 0.0129Ω; Impedance (0V Bias) @ 10MHz: 0.0502Ω; Impedance (0V Bias) @ 50MHz: 0.154Ω; Impedance (0V Bias) @ 100MHz: 0.279Ω; Impedance (0V Bias) @ 500MHz: 1.24Ω; Impedance (0V Bias) @ 1GHz: 2.36Ω; Impedance (0V Bias) @ 2GHz: 5.96Ω; Impedance (0V Bias) @ 5GHz: 8.78Ω; Package Size: 1206; JLCPCB Basic Part: Yes; JLCPCB Part Number: C1848; Supplier 1: LCSC; Category: Capacitors - MLCC; Supplier Part Number 1: C1848; Tolerance: ±10%; Voltage Rating: 50V; Temperature Coefficient: X7R; RoHS: Yes; ComponentLink1Description: Datasheet; ComponentLink1URL: https://wmsc.lcsc.com/wmsc/upload/file/pdf/v2/lcsc/2304140030_Samsung-Electro-Mechanics-CL31B105KBHNNNE_C1848.pdf; ComponentLink2Description: JLCPCB Part URL; ComponentLink2URL: https://jlcpcb.com/partdetail/C1848; ComponentLink3Description: LCSC Part URL; ComponentLink3URL: https://lcsc.com/product-detail/Multilayer-Ceramic-Capacitors-MLCC---SMD-SMT_Samsung-Electro-Mechanics-Samsung-Electro-Mechanics-CL31B105KBHNNNE_C1848.html; ComponentLink4Description: Samsung Component Library; ComponentLink4URL: https://weblib.samsungsem.com/mlcc/mlcc-ec.do?partNumber=CL31B105KBHNNN; Capacitance @ 4.2V DC Bias: 1.031uF
footprint CAP-1206 (1206 (3216M) Capacitor)
pins: 1, 2

## CL31B106KAHNNNE
designator C?, comment 10uF
CAP CER 10UF 25V X7R 1206; Supplier 3: Digikey; Supplier Part Number 3: 490-6518-1-ND; Supplier 4: LCSC; Supplier Part Number 4: C77093; Supplier 1: Digikey; Supplier Part Number 1: 1276-1804-1-ND; Supplier 2: LCSC; Supplier Part Number 2: C14860
footprint CAP 1206_3216 (Chip Capacitor, 2-Leads, Body 3.25x1.60mm, IPC Medium Density)
pins: 1, 2

## CL31B106KBHNNNE
designator C?, comment 10uF
CAP CER 10UF 50V X7R 1206; Supplier 1: Digikey; Supplier Part Number 1: 1276-6767-1-ND; Supplier 2: LCSC; Supplier Part Number 2: C89632
footprint CAP 1206_3216 (Chip Capacitor, 2-Leads, Body 3.25x1.60mm, IPC Medium Density)
pins: 1, 2

## CL31B106KLHNNNE
designator C?, comment 10uF
CAP CER 10UF 35V X7R 1206; Supplier 1: DigiKey; Supplier Part Number 1: 1276-3103-1-ND; Supplier 2: LCSC; Supplier Part Number 2: C16195875
footprint CAP 1206_3216 (Chip Capacitor, 2-Leads, Body 3.25x1.60mm, IPC Medium Density)
pins: 1, 2

## CL31B106KOHVPNE
designator C?, comment 10uF
CAP CER 10UF 16V X7R 1206; Supplier 1: DigiKey; Supplier Part Number 1: 1276-6797-6-ND; Supplier 2: LCSC; Supplier Part Number 2: C472847
footprint CAP 1206_3216 (Chip Capacitor, 2-Leads, Body 3.25x1.60mm, IPC Medium Density)
pins: 1, 2

## CL31B225KBHNNNE
designator C?  Capacitance: 2.2uF  (hidden comment: *)
Capacitor, Ceramic (MLCC), 2.2uF, ±10%, 50V, X7R, ±10%, SMD 1206; Manufacturer: Samsung Electro-Mechanics; Manufacturer Part Number: CL31B225KBHNNNE; Temperature Rating: -55°C ~ 125°C; Capacitance @ 1V DC Bias: 2.195uF; Capacitance @ 1.2V DC Bias: 2.197uF; Capacitance @ 1.35V DC Bias: 2.199uF; Capacitance @ 2.5V DC Bias: 2.193uF; Capacitance @ 3.3V DC Bias: 2.178uF; Capacitance @ 3.7V DC Bias: 2.169uF; Capacitance @ 4.2V DC Bias: 2.157uF; Capacitance @ 5V DC Bias: 2.134uF; Capacitance @ 9V DC Bias: 1.998uF; Capacitance @ 12V DC Bias: 1.877uF; Capacitance @ 15V DC Bias: 1.754uF; Capacitance @ 24V DC Bias: 1.389uF; Capacitance @ 36V DC Bias: 1.004uF; Capacitance @ 48V DC Bias: 0.742uF; Impedance (0V Bias) @ 100Hz: 788Ω; Impedance (0V Bias) @ 500Hz: 159Ω; Impedance (0V Bias) @ 1kHz: 80.2Ω; Impedance (0V Bias) @ 5kHz: 16.2Ω; Impedance (0V Bias) @ 10kHz: 8.15Ω; Impedance (0V Bias) @ 50kHz: 1.65Ω; Impedance (0V Bias) @ 100kHz: 0.828Ω; Impedance (0V Bias) @ 500kHz: 0.165Ω; Impedance (0V Bias) @ 1MHz: 0.0787Ω; Impedance (0V Bias) @ 5MHz: 0.0172Ω; Impedance (0V Bias) @ 10MHz: 0.0425Ω; Impedance (0V Bias) @ 50MHz: 0.147Ω; Impedance (0V Bias) @ 100MHz: 0.267Ω; Impedance (0V Bias) @ 500MHz: 1.15Ω; Impedance (0V Bias) @ 1GHz: 2.21Ω; Impedance (0V Bias) @ 2GHz: 5.74Ω; Impedance (0V Bias) @ 5GHz: 6.92Ω; Package Size: 1206; JLCPCB Basic Part: Yes; JLCPCB Part Number: C50254; Supplier 1: LCSC; Category: Capacitors - MLCC; Supplier Part Number 1: C50254; Tolerance: ±10%; Voltage Rating: 50V; Temperature Coefficient: X7R; RoHS: Yes; ComponentLink1Description: Datasheet; ComponentLink1URL: https://wmsc.lcsc.com/wmsc/upload/file/pdf/v2/lcsc/2304140030_Samsung-Electro-Mechanics-CL31B225KBHNNNE_C50254.pdf; ComponentLink2Description: JLCPCB Part URL; ComponentLink2URL: https://jlcpcb.com/partdetail/C50254; ComponentLink3Description: LCSC Part URL; ComponentLink3URL: https://lcsc.com/product-detail/Multilayer-Ceramic-Capacitors-MLCC---SMD-SMT_Samsung-Electro-Mechanics-Samsung-Electro-Mechanics-CL31B225KBHNNNE_C50254.html; ComponentLink4Description: Samsung Component Library; ComponentLink4URL: https://weblib.samsungsem.com/mlcc/mlcc-ec.do?partNumber=CL31B225KBHNNN; Capacitance @ 1.5V DC Bias: 2.199uF; Capacitance @ 1.8V DC Bias: 2.199uF
footprint CAP-1206 (1206 (3216M) Capacitor)
pins: 1, 2

## CL31B475KBHNNNE
designator C?, comment 4.7uF
CAP CER 4.7UF 50V X7R 1206; Supplier 1: DigiKey; Supplier Part Number 1: 1276-2789-1-ND; Supplier 2: LCSC; Supplier Part Number 2: C51205
footprint CAP 1206_3216 (Chip Capacitor, 2-Leads, Body 3.25x1.60mm, IPC Medium Density)
pins: 1, 2

## CMP6713HV
designator U?, comment Transformer Driver
IC SOT-23-6 Transformer Drivers ROHS; Supplier 2: LCSC; Supplier Part Number 2: C47117015
footprint SOT23-6
pins: 1 EN, 2 GND, 3 CLK, 4 VD2 (power), 5 VIN, 6 VD1 (power)

## CMP6793RE
designator U?, comment Transformer Driver
IC ESOP8 Transformer Drivers ROHS; Supplier 1: LCSC; Supplier Part Number 1: C47117018
footprint ESOP8 (SOP, 8-Leads, Body 4.90x3.90mm, Pitch 1.27mm, Thermal Pad 3.50x2.60mm, IPC Medium Density)
pins: 1 CLK "F=535", 2 GND, 3 VIN, 4 EN, 5 VD2 (power), 6 NC, 7 NC, 8 VD1 (power)

## CMT38G5N
designator T?, comment Pulse Transformer  (value not drawn)
TRANSFORMER SMD Power Transformers ROHS 1:0.47:0.47; Supplier 1: LCSC; Supplier Part Number 1: C47117138
footprint Pulse Transformer 6Pin 6.5 x 7.3 (CMT78G5N)
pins: 1, 2, 3, 4, 5, 6

## CMT2202KA
designator T?, comment Pulse Transformer  (value not drawn)
TRANSFORMER SMD-8P,12.1x8.3mm Power Transformers ROHS; Supplier 1: LCSC; Supplier Part Number 1: CMT2202KA
footprint PULSE TRANSFORMER 4pin (CMT2202KA)
pins: 1, 2, 3, 4

## COMMON MODE CHOKE 1UH
designator L?, comment 1UH
FIXED INDUCT COMMON MODE CHOKE 1UH
footprint common mode choke
pins: 1 A, 2 B, 3 C, 4 D

## COMMON MODE CHOKE 30UH
designator L?, comment 30UH CMC
FIXED INDUCT COMMON MODE CHOKE 30UH
footprint common mode choke
pins: 1, 2, 3, 4

## Connector 2x12POS
designator CN?, comment 2x12 PinHeader
CONN HEADER VERT 24POS 2.54mm FEMALE; Supplier 1: Makers; Supplier Part Number 1: https://makerselectronics.com/product/pin-headers-female-2-54mm-40-pin; ComponentLink1Description: Makers; ComponentLink1URL: https://makerselectronics.com/product/pin-headers-female-2-54mm-40-pin
footprint pin header 24 pos (Socket Header, Pitch 2.54 mm, THT, Vertical, dual row, 24p)
pins: 1, 2, 3, 4, 5, 6, 7, 8, 9, 10, 11, 12, 13, 14, 15, 16, 17, 18, 19, 20, 21, 22, 23, 24

## Controller Connector
designator CN?, comment 2x12 PinHeader
CONN HEADER VERT 24POS 2.54mm FEMALE; Supplier 1: Makers; Supplier Part Number 1: https://makerselectronics.com/product/pin-headers-female-2-54mm-40-pin; ComponentLink1Description: Makers; ComponentLink1URL: https://makerselectronics.com/product/pin-headers-female-2-54mm-40-pin
footprint Controller board + pin header (Socket Header, Pitch 2.54 mm, THT, Vertical, dual row, 24p)
pins: 1, 2, 3, 4, 5, 6, 7, 8, 9, 10, 11, 12, 13, 14, 15, 16, 17, 18, 19, 20, 21, 22, 23, 24

## CR1206-FX-1003ELF
designator R?, comment 100K
RES SMD 100K OHM 1% 1/4W 1206; ComponentLink1Description: DIGIKEY; ComponentLink1URL: https://www.digikey.com/en/products/detail/bourns-inc/CR1206-FX-1003ELF/2562679?s=N4IgTCBcDaIMICUCMYAMA2AtAMQBqaVVQGYBRAGWxAF0BfIA; ComponentLink2Description: LCSC; ComponentLink2URL: https://www.lcsc.com/product-detail/Chip-Resistor-Surface-Mount_BOURNS-CR1206-FX-1003ELF_C205048.html; Supplier 1: Digikey; Supplier Part Number 1: CR1206-FX-1003ELFCT-ND; Supplier 2: LCSC; Supplier Part Number 2: C205048; Supplier 3: Digikey; Supplier Part Number 3: 541-100KFCT-ND; Supplier 4: LCSC; Supplier Part Number 4: C2907421
footprint RES 1206_3216 (Chip Resistor, 2-Leads, Body 3.13x1.55mm, IPC Medium Density)
pins: 1 A, 2 B

## CRCW06033K90JNEA
designator R?, comment 3.9k
RES SMD 3.9K OHM 5% 1/10W 0603; Supplier 1: Digikey; Supplier Part Number 1: 541-3.9KGCT-ND; Supplier 2: LCSC; Supplier Part Number 2: C3009028; Supplier 3: Digikey; Supplier Part Number 3: 13-RC0603FR-133K9LCT-ND; Supplier 4: LCSC; Supplier Part Number 4: C137629
footprint RES 0603_1608 (Chip Resistor, 2-Leads, Body 1.60x0.80mm, IPC Medium Density)
pins: 1 A, 2 B

## CRCW08054K70FKEAC
designator R?, comment 4.7k
RES SMD 4.7K OHM 1% 1/8W 0805; Supplier 1: DigiKey; Supplier Part Number 1: 541-4.70KCCT-ND; Supplier 2: LCSC; Supplier Part Number 2: C844941; Supplier 3: Digikey; Supplier Part Number 3: 311-4.70KCRCT-ND; Supplier 4: LCSC; Supplier Part Number 4: C60816
footprint RES 0805_2012 (Chip Resistor, 2-Leads, Body 2.00x1.25mm, IPC Medium Density)
pins: 1 A, 2 B

## CRCW060310R0JNEAHP
designator R?, comment 10Ω
RES SMD 10 OHM 1% 1/10W 0603 pulse resist; Supplier 1: DigiKey; Supplier Part Number 1: 541-10SACT-ND; Supplier 2: LCSC; Supplier Part Number 2: C844519
footprint RES 0603_1608 (Chip Resistor, 2-Leads, Body 1.60x0.80mm, IPC Medium Density)
pins: 1 A, 2 B

## CRCW120610R0FKEAC
designator R?, comment 10R
RES SMD 10 OHM 1% 1/4W 1206; Supplier 1: Digikey; Supplier Part Number 1: 541-3981-1-ND; Supplier 2: LCSC; Supplier Part Number 2: C844224; Supplier 3: Digikey; Supplier Part Number 3: 311-10.0FRCT-ND; Supplier 4: LCSC; Supplier Part Number 4: C108080
footprint RES 1206_3216 (Chip Resistor, 2-Leads, Body 3.13x1.55mm, IPC Medium Density)
pins: 1 A, 2 B

## CRCW201010K0FKEF
designator R?, comment 10K 2W
RES SMD 10K OHM 1% 2W 2512; Supplier 1: Digikey; Supplier Part Number 1: 541-10.0KACCT-ND; Supplier 2: LCSC; Supplier Part Number 2: C2078100; Supplier 3: Digikey; Supplier Part Number 3: YAG3394CT-ND; Supplier 4: LCSC; Supplier Part Number 4: C137016
footprint RES 2512_6332 (Chip Resistor, 2-Leads, Body 6.30x3.20mm, IPC Medium Density)
pins: 1 A, 2 B

## CRCW1206200RFKEA
designator R?, comment 200
RES SMD 200 OHM 1% 1/4W 1206; Supplier 1: Digikey; Supplier Part Number 1: 541-200FCT-ND; Supplier 2: LCSC; Supplier Part Number 2: C114939
footprint RES 1206_3216 (Chip Resistor, 2-Leads, Body 3.13x1.55mm, IPC Medium Density)
pins: 1 A, 2 B

## CRGCQ2512F100K
designator R?, comment 100k
RES SMD 100K OHM 1% 1W 2512; Supplier 1: DigiKey; Supplier Part Number 1: A130017CT-ND; Supplier 2: LCSC; Supplier Part Number 2: C25717; Supplier 3: Digikey; Supplier Part Number 3: 541-100KAFCT-ND; Supplier 4: LCSC; Supplier Part Number 4: C5713425
footprint RES 2512_6332 (Chip Resistor, 2-Leads, Body 6.30x3.20mm, IPC Medium Density)
pins: 1 A, 2 B

## CRYSTAL TH 8MHZ
designator Y?, comment CRYSTAL 8MHZ
IC CRYSTAL 8MHZ; Supplier 1: MAKERS; Supplier Part Number 1: https://makerselectronics.com/product/crystal-8-000mhz-49s-20ppm-20pf-40%cf%89; ComponentLink1Description: MAKERS; ComponentLink1URL: https://makerselectronics.com/product/crystal-8-000mhz-49s-20ppm-20pf-40%cf%89
footprint CRYSTAL HC-49 THROUGH HOLE
pins: 1, 2

## CS45-16IO1
designator U?, comment SCR 1.6KV 75A TO247AD
Supplier 1: Digikey; Supplier Part Number 1: CS45-16IO1-ND; Supplier 2: Mouser; Supplier Part Number 2: 747-CS45-16IO1; Supplier 3: Digikey; Supplier Part Number 3: 1740-BT155W-1400TQ-ND; Supplier 4: Mouser; Supplier Part Number 4: 771-BT155W-1400TQ
footprint TO-247 (IXYS TO-264 IXFK Vetical)
pins: 1 K, 2 A, 3 G

## CT Transformer
designator CT?, comment CURR SENSE 1:1000 100A TH
Transformer 100 A 1:1000 Current Sense CT01C; Supplier 1: Made In China; Supplier Part Number 1: https://careltech.en.made-in-china.com/product/QZkfmSUjOqGn/China-High-Precision-1600-5-2000-5-800-5A-Current-Sense-Transformer-CT.html?ads_tp=ppc&ads_id=VJAmIyjvhxkB&ads_tp=ppc&ads_id=VJAmIyjvhxkB&pv_id=1iqiqb3uk6f7&faw_id=1iqiqb4o8a39&bv_id=1iqiqbca99a5&pbv_id=1iqiqb2u5cfc
footprint T_T60404-E4626-X502_VAC
pins: 1 A, 2 B

## CY54-2.2UH
designator L?, comment 2.2uH 4A
FIXED IND 2.2uH 4A 22.1mΩ SMD,5.8x5.2mm; Supplier 1: DigiKey; Supplier Part Number 1: 118-SRP6030WA-100MCT-ND; Supplier 2: LCSC; Supplier Part Number 2: C149584
footprint IND SMD 5.8X5.2mm (SMD Power Inductor, 2-Leads, body 5.8x5.2mm)
pins: 1 B, 2 A

## CY54-3.3UH
designator L?, comment 3.3 µH, 3.7A
FIXED IND 3.3uH 3.7A; Supplier 1: Digikey; Supplier Part Number 1: 732-1265-1-ND; Supplier 2: LCSC; Supplier Part Number 2: C2929428
footprint WE-PD2_5848 (SMD Power Inductor, 2-Leads, body 5.8x5.2mm)
pins: 1, 2

## CY54-33UH
designator L?, comment 33 µH, 1.09 A
FIXED IND 33UH 1.09A 230MOHM SMD; Parameter 2: 732-1274-2-ND; Parameter 4: C2929433; Supplier 1: Digikey; Supplier 2: LCSC
footprint WE-PD2_5848 (SMD Power Inductor, 2-Leads, body 5.8x5.2mm)
pins: 1, 2

## DB2EK-2.54-2P-GN-S
designator MCH?, comment PLUG 2POS  (value not drawn)  (mechanical)
MECH TERM BLOCK PLUG 2POS 2.54mm; Supplier 1: LCSC; Supplier Part Number 1: C2927483
text: TERM BLOCK PLUG; 2POS 2.54mm

## DB2EK-2.54-3P-GN-S
designator MCH?, comment PLUG 3POS  (value not drawn)  (mechanical)
MECH TERM BLOCK PLUG 3POS 2.54mm; Supplier 1: LCSC; Supplier Part Number 1: C2927484
text: TERM BLOCK PLUG; 3POS 2.54mm

## DB2ERC-2.54-2P-GN
designator CN?, comment TERM P2.54
CONN TERM PLUG HDR 2POS 2.54MM; Supplier 1: LCSC; Supplier Part Number 1: C2927503
footprint Terminal Block Pluggable P=2.54 2POS (Horizontal PCB Header, pitch 2.5mm, 02p)
pins: 1, 2

## DB2ERC-2.54-3P-GN
designator CN?, comment TERM P2.54
CONN TERM PLUG HDR 3POS 2.54MM; Supplier 1: LCSC; Supplier Part Number 1: C2927504
footprint Terminal Block Pluggable P=2.54 3 POS (Horizontal PCB Header, pitch 2.5mm, 03p)
pins: 1, 2, 3

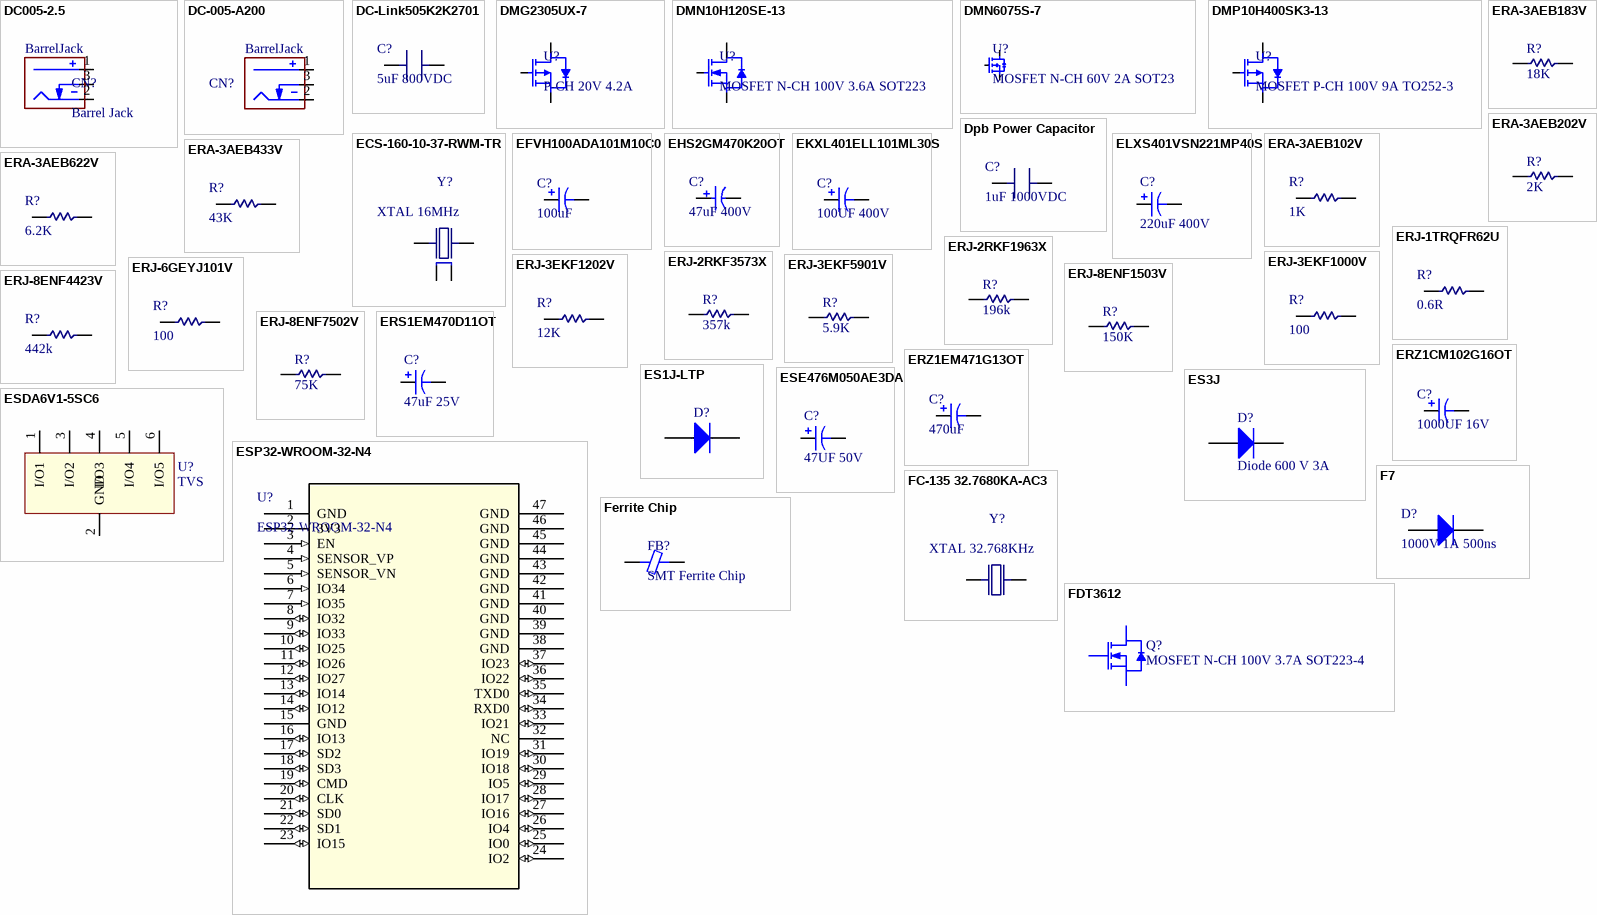
[diagram p12: symbols DC005-2.5 to Ferrite Chip]

## DC005-2.5
designator CN?, comment Barrel Jack
CONN PWR JACK 2.5mm x 6.3mm TH R/A; Supplier 1: LCSC; Supplier Part Number 1: C7507454
footprint GCT_DCJ200-10-A-XX-K_REVA
footprint GCT_DCJ250-10-A-XX-X_REVA
pins: 1 Centre (power), 2 Outer (power), 3 SW (power)
text: BarrelJack

## DC-005-A200
designator CN?, comment DC BARREL JACK  (value not drawn)
CONN PWR JACK 2X6.4MM TH; Supplier 2: LCSC; Supplier Part Number 2: C720557
footprint GCT_DCJ200-10-A-XX-K_REVA
pins: 1 Centre (power), 2 Outer (power), 3 SW (power)
text: BarrelJack

## DC-Link505K2K2701
designator C?, comment 5uF 800VDC
CAP FILM 5uF ±10% 800V TH; Supplier 1: LCSC; Supplier Part Number 1: C5371185
footprint CAP FILM  31X14 P=27 (VDC 1000V ,P = 27.5)
pins: 1 A, 2 B

## DMG2305UX-7
designator U?, comment P-CH 20V 4.2A
MOSFET P-CH 20V 4.2A SOT23; Supplier 1: DigiKey; Supplier Part Number 1: DMG2305UX-7DIDKR-ND; Supplier 2: LCSC; Supplier Part Number 2: C150470
footprint SOT23-3 (SOT23-3, BAT54, DIODES INC)
pins: 1 G, 2 S, 3 D

## DMN10H120SE-13
designator U?, comment MOSFET N-CH 100V 3.6A SOT223
Supplier 1: Digikey; Supplier Part Number 1: DMN10H120SE-13DICT-ND; Supplier 2: LCSC; Supplier Part Number 2: C460989; Supplier 3: Digikey; Supplier Part Number 3: FDT3612CT-ND; Supplier 4: LCSC; Supplier Part Number 4: C20617897
footprint SOT223-NMOS
pins: 1 G, 2 D, 3 S, 4 D